# Altium footprint library DirectFET.PcbLib: 5 footprints
Each footprint in its own frame and in the unit in brackets; x right, y up, seen from the top. Pads: shape width x height; smd on the part's side, far side on the other; paste and mask are expansions set on the pad; w line width, h text height; cw(c..) or ccw(c..) is an arc to the next point about the centre after c.
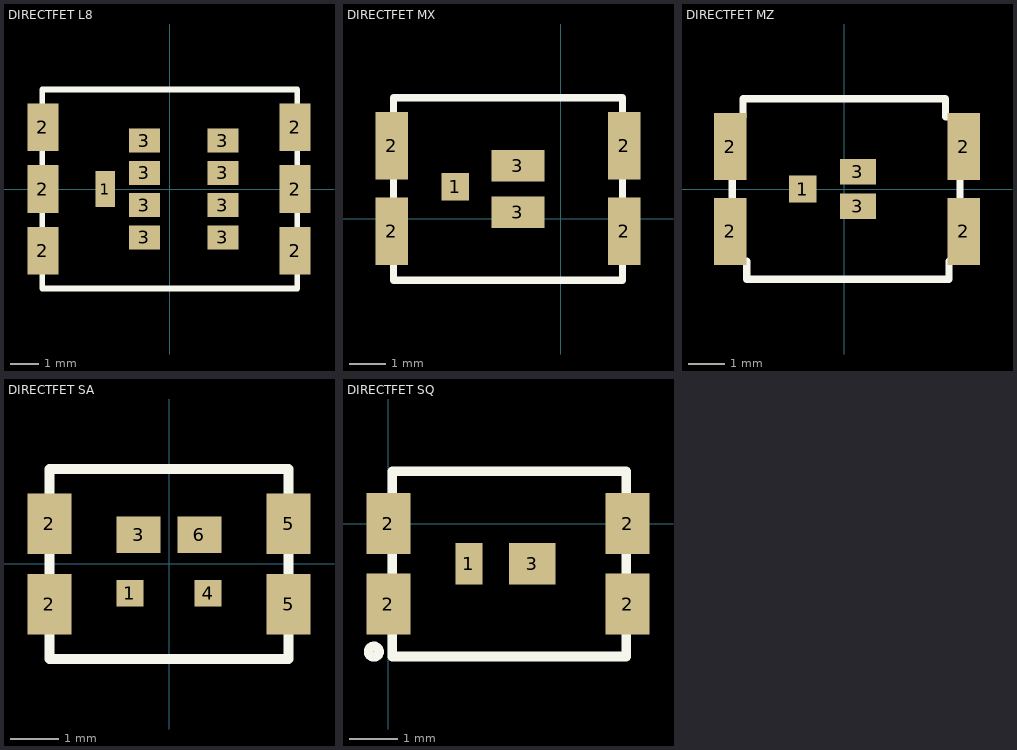
[diagram p0: the footprints below, top view; thin cyan lines are the x and y axes]

## DIRECTFET L8 [mm]
pads (15):
  rect 0.7x1.3 smd: 1(-2.3,0)
  rect 1.1x1.7 smd: 2(-4.525,-2.2) 2(-4.525,0) 2(-4.525,2.2) 2(4.475,-2.2) 2(4.475,0) 2(4.475,2.2)
  rect 1.1x0.85 smd: 3(-0.9,-1.725) 3(-0.9,-0.575) 3(-0.9,0.575) 3(-0.9,1.725) 3(1.9,-1.725) 3(1.9,-0.575) 3(1.9,0.575) 3(1.9,1.725)
Top Overlay:
  lines w0.2: -4.55,-3.55 4.55,-3.55 4.55,3.55 -4.55,3.55 -4.55,-3.55
3D body "User Library-DirectFET-L8_AUIRF7669L2.STEP": height 0.83, standoff 0, extent -4.575,-3.55 4.575,3.55

## DIRECTFET MX [mm] "Nyashka"
pads (7):
  rect 0.75x0.75 smd: 1(-2.9,0.875)
  rect 0.9x1.85 smd: 2(-4.65,-0.35) 2(-4.65,2) 2(1.75,-0.35) 2(1.75,2)
  rect 1.45x0.87 smd: 3(-1.175,1.45) 3(-1.175,0.175)
Top Overlay:
  lines w0.2: -4.6,-1.7 1.7,-1.7 1.7,3.325 -4.6,3.325 -4.6,-1.7
3D body "User Library-DirectFET_MX.STEP": height 0.7, standoff -0.05, extent -4.6,-1.7 1.75,3.35

## DIRECTFET MZ [mm]
pads (7):
  rect 0.75x0.75 smd: 1(-1.15,0)
  rect 0.9x1.85 smd: 2(-3.15,-1.175) 2(-3.15,1.175) 2(3.3,-1.175) 2(3.3,1.175)
  rect 1x0.7 smd: 3(0.375,-0.475) 3(0.375,0.475)
Top Overlay:
  lines w0.2: -3.1,-2 -2.7,-2 -2.7,-2.5 2.9,-2.5 2.9,-2 3.2,-2 3.2,2 2.8,2 2.8,2.5 -2.8,2.5 -2.8,2 -3.1,2 -3.1,-2

## DIRECTFET SA [mm]
pads (8):
  rect 0.55x0.55 smd: 1(-0.8,-0.6) 4(0.8,-0.6)
  rect 0.9x1.25 smd: 2(-2.45,-0.825) 2(-2.45,0.825) 5(2.45,-0.825) 5(2.45,0.825)
  rect 0.9x0.75 smd: 3(-0.625,0.6) 6(0.625,0.6)
Top Overlay:
  lines w0.2: -2.45,-1.95 -2.45,1.95 2.45,1.95 2.45,-1.95 -2.45,-1.95

## DIRECTFET SQ [mm]
pads (6):
  rect 0.55x0.85 smd: 1(1.65,-0.825)
  rect 0.9x1.25 smd: 2(0,-1.65) 2(0,0) 2(4.9,-1.65) 2(4.9,0)
  rect 0.95x0.85 smd: 3(2.95,-0.825)
Top Overlay:
  circle w0.2: c-0.3,-2.625 r0.106
  lines w0.2: 0.075,-2.725 4.875,-2.725 4.875,1.075 0.075,1.075 0.075,-2.725
3D body "MG-WDSON-2_3.stp": height 0.66, standoff 0, extent 0.075,-2.738 4.875,1.088